# EAGLE library part HM26 (library SUBMIND - Steckverbinder)
SUB-D
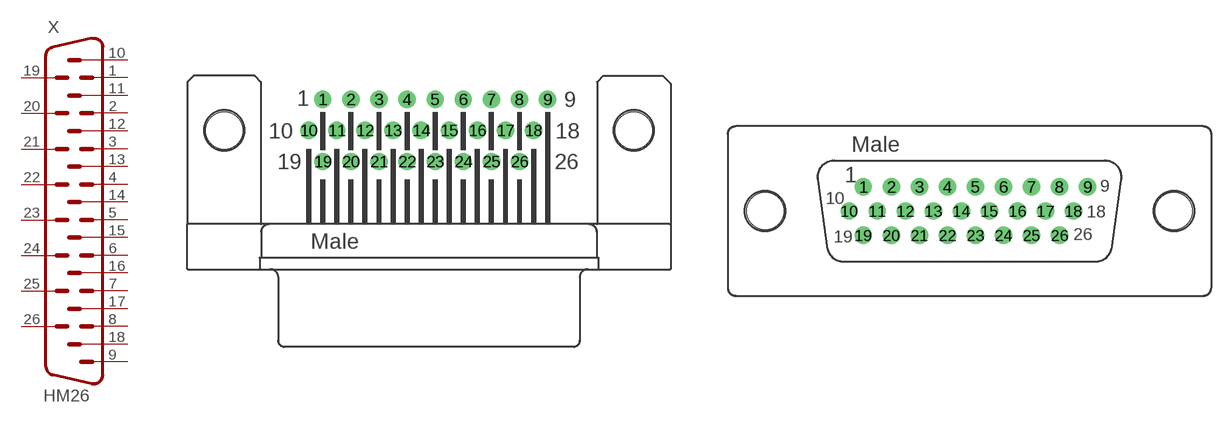
[diagram p44: symbol with the pads of HDM26H; footprints HDM26H, HDM26V]

Designator prefix X

## HM26H (OC_FARNELL: unknown; OC_NEWARK: unknown)  [HDM26H]
1  1  pas
2  2  pas
3  3  pas
4  4  pas
5  5  pas
6  6  pas
7  7  pas
8  8  pas
9  9  pas
10  10  pas
11  11  pas
12  12  pas
13  13  pas
14  14  pas
15  15  pas
16  16  pas
17  17  pas
18  18  pas
19  19  pas
20  20  pas
21  21  pas
22  22  pas
23  23  pas
24  24  pas
25  25  pas
26  26  pas

## HM26V (OC_FARNELL: unknown; OC_NEWARK: unknown)  [HDM26V]
Pads as for HDM26H

## Footprint HDM26H (pad centres in mm)
SUB-D
drill 0.9: 1 -8.639,2.54; 2 -6.353,2.54; 3 -4.067,2.54; 4 -1.781,2.54; 5 0.505,2.54; 6 2.791,2.54; 7 5.077,2.54; 8 7.363,2.54; 9 9.649,2.54; 10 -9.782,0; 11 -7.496,0; 12 -5.21,0; 13 -2.924,0; 14 -0.638,0; 15 1.648,0; 16 3.934,0; 17 6.22,0; 18 8.506,0; 19 -8.639,-2.54; 20 -6.353,-2.54; 21 -4.067,-2.54; 22 -1.781,-2.54; 23 0.505,-2.54; 24 2.791,-2.54; 25 5.077,-2.54; 26 7.363,-2.54
hole 3 at -16.65,0
hole 3 at 16.65,0

## Footprint HDM26V (pad centres in mm)
SUB-D
drill 0.9: 1 -8.658,1.98; 2 -6.372,1.98; 3 -4.086,1.98; 4 -1.8,1.98; 5 0.486,1.98; 6 2.772,1.98; 7 5.058,1.98; 8 7.344,1.98; 9 9.63,1.98; 10 -9.801,0; 11 -7.515,0; 12 -5.229,0; 13 -2.943,0; 14 -0.657,0; 15 1.629,0; 16 3.915,0; 17 6.201,0; 18 8.487,0; 19 -8.658,-1.98; 20 -6.372,-1.98; 21 -4.086,-1.98; 22 -1.8,-1.98; 23 0.486,-1.98; 24 2.772,-1.98; 25 5.058,-1.98; 26 7.344,-1.98
hole 3 at -16.65,0
hole 3 at 16.65,0